# Altium integrated library GSM Shutter lock system.IntLib: 34 symbols
Pins are listed as number, name and electrical type; pins without a type are passive.

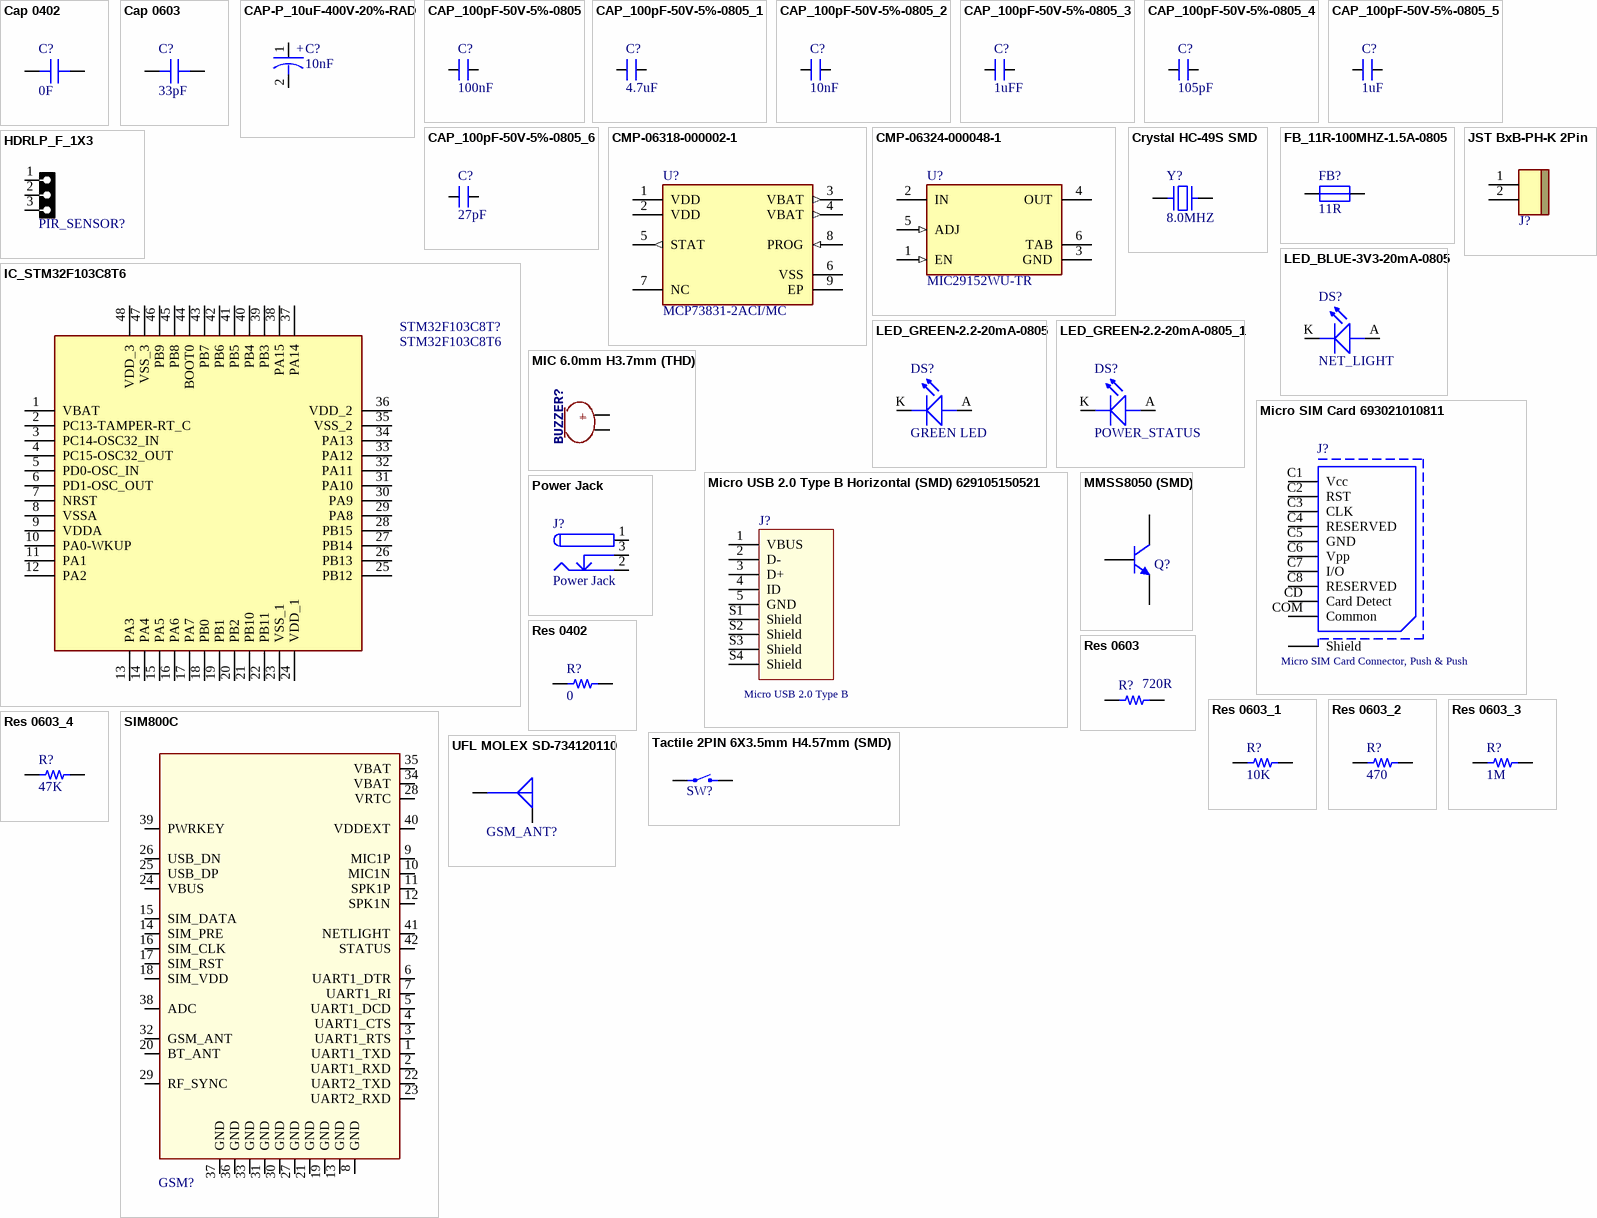
[diagram p0: symbols Cap 0402 to UFL MOLEX SD-734120110]

## Cap 0402
designator C?, comment 0F
SMT Capacitor; VALUE: 100nF
footprint CAP 0402_1005 (Chip Capacitor, 2-Leads, Body 1.02x0.51mm, IPC Medium Density)
pins: 1, 2

## Cap 0603
designator C?, comment 33pF
SMT Capacitor; VALUE: 100nF
footprint CAP 0603_1608 (Chip Capacitor, 2-Leads, Body 1.60x0.80mm, IPC Medium Density)
pins: 1, 2

## CAP-P_10uF-400V-20%-RAD
designator C?, comment 10nF
10µF 400V Aluminum Electrolytic Capacitors Radial, Can - SMD 10000 Hrs @ 105°C; Manufacturer: Nichicon; Manufacturer Part Number: ULV2G100MNL1GS; Alternate Part Number-1: NA; Case/Package: Radial-SMD; Supplier-1: SP ROAD; Supplier Part Number-1: ULV2G100MNL1GS
footprint ACAP_P339_D393_H531_RAD (Aluminium Capacitor)
pins: 1, 2
text: +

## CAP_100pF-50V-5%-0805
designator C?, comment 100nF
100pF ±5% 50V Ceramic Capacitor C0G, NP0 0805 (2012 Metric); Manufacturer: KEMET; Manufacturer Part Number: CC0805JRNPO9BN101; Alternate Part Number-1: NA; Case/Package: 0805; Supplier-1: SIRICOM; Supplier Part Number-1: 0805N101J500LT
footprint CAP_0805 (Ceramic Capacitor)
pins: 1, 2

## CAP_100pF-50V-5%-0805_1
designator C?, comment 4.7uF
100pF ±5% 50V Ceramic Capacitor C0G, NP0 0805 (2012 Metric); Manufacturer: KEMET; Manufacturer Part Number: CC0805JRNPO9BN101; Alternate Part Number-1: NA; Case/Package: 0805; Supplier-1: SIRICOM; Supplier Part Number-1: 0805N101J500LT
footprint CAP_0805 (Ceramic Capacitor)
pins: 1, 2

## CAP_100pF-50V-5%-0805_2
designator C?, comment 10nF
100pF ±5% 50V Ceramic Capacitor C0G, NP0 0805 (2012 Metric); Manufacturer: KEMET; Manufacturer Part Number: CC0805JRNPO9BN101; Alternate Part Number-1: NA; Case/Package: 0805; Supplier-1: SIRICOM; Supplier Part Number-1: 0805N101J500LT
footprint CAP_0805 (Ceramic Capacitor)
pins: 1, 2

## CAP_100pF-50V-5%-0805_3
designator C?, comment 1uFF
100pF ±5% 50V Ceramic Capacitor C0G, NP0 0805 (2012 Metric); Manufacturer: KEMET; Manufacturer Part Number: CC0805JRNPO9BN101; Alternate Part Number-1: NA; Case/Package: 0805; Supplier-1: SIRICOM; Supplier Part Number-1: 0805N101J500LT
footprint CAP_0805 (Ceramic Capacitor)
pins: 1, 2

## CAP_100pF-50V-5%-0805_4
designator C?, comment 105pF
100pF ±5% 50V Ceramic Capacitor C0G, NP0 0805 (2012 Metric); Manufacturer: KEMET; Manufacturer Part Number: CC0805JRNPO9BN101; Alternate Part Number-1: NA; Case/Package: 0805; Supplier-1: SIRICOM; Supplier Part Number-1: 0805N101J500LT
footprint CAP_0805 (Ceramic Capacitor)
pins: 1, 2

## CAP_100pF-50V-5%-0805_5
designator C?, comment 1uF
100pF ±5% 50V Ceramic Capacitor C0G, NP0 0805 (2012 Metric); Manufacturer: KEMET; Manufacturer Part Number: CC0805JRNPO9BN101; Alternate Part Number-1: NA; Case/Package: 0805; Supplier-1: SIRICOM; Supplier Part Number-1: 0805N101J500LT
footprint CAP_0805 (Ceramic Capacitor)
pins: 1, 2

## CAP_100pF-50V-5%-0805_6
designator C?, comment 27pF
100pF ±5% 50V Ceramic Capacitor C0G, NP0 0805 (2012 Metric); Manufacturer: KEMET; Manufacturer Part Number: CC0805JRNPO9BN101; Alternate Part Number-1: NA; Case/Package: 0805; Supplier-1: SIRICOM; Supplier Part Number-1: 0805N101J500LT
footprint CAP_0805 (Ceramic Capacitor)
pins: 1, 2

## CMP-06318-000002-1
designator U?, comment MCP73831-2ACI/MC
IC CONTROLLER LI-ION 4.2V 8DFN; Manufacturer: Microchip; Number Of Cells: 1; Min Supply Voltage: 3.75V; Standoff Height: 0mm; Nominal Supply Current: 0.1-510uA; Max Junction Temp: +125°C; Max Supply Voltage: 6V; Temperature Range High: +85°C; Mouser Description: Battery Management Li-Ion/Li-Poly Charg Mgnt 4.2V Vreg out; Device Class L2: Power Management ICs; ComponentLink2Description: Datasheet; Footprint Url: http://ww1.microchip.com/downloads/en/DeviceDoc/8L_DFN_2x3x0_9_MC_C04-123C.pdf; Output Voltage: 4.2V; ComponentLink2URL: http://ww1.microchip.com/downloads/en/DeviceDoc/20001984g.pdf; Package: C04-123; Ipc Land Pattern Name: DFN200X300X90-8; Number Of Outputs: 1; Manufacturer Part Number: MCP73831-2ACI/MC; Device Class L3: Battery Management; Device Class L1: Integrated Circuits (ICs); Digikey Description: IC CONTROLLER LI-ION 4.2V 8DFN; Category: IC; Temperature Range Low: -40°C; Automotive: No; Temperature: -40°C to +85°C; Octopart: https://octopart.com/mcp73831-2aci%2Fmc-microchip-16517355; RoHS: TRUE; Ambient Temperature Range Low: -40°C; Height: 1mm; Lead Free: Yes; Ambient Temperature Range High: +85°C
footprint FP-C04-123-MFG
footprint FP-C04-123-IPC_C
footprint FP-C04-123-IPC_B
footprint FP-C04-123-IPC_A
pins: 1 VDD (power), 2 VDD (power), 3 VBAT (out), 4 VBAT (out), 5 STAT (out), 6 VSS (power), 7 NC, 8 PROG (in), 9 EP (power)

## CMP-06324-000048-1
designator U?, comment MIC29152WU-TR
IC REG LIN POS ADJ 1.5A TO263-5; Manufacturer: Microchip; Output Voltage: 26V; Min Input Voltage: 2.5V; Input Bias Current: 40nA; Number of Outputs: 1; Output Type: Adjustable; Output Voltage Accuracy: 1%; Dropout Voltage: 350mV; Polarity: Positive; Quiescent Current: 20mA; Reference Voltage: 1.24V; Mount: Surface Mount; Packaging: Tape and Reel; Min Operating Temperature: -40°C; Length: 10.67mm; Case/Package: TO-263-5; Max Input Voltage: 26V; RoHS Compliant: Yes; Number of Pins: 6; Height: 4.59mm; Max Output Current: 1.5A; Number of Regulators: 1; Max Operating Temperature: 125°C; Width: 9.17mm; Series: -; Accuracy: 1%; Lead Free: Lead Free; Radiation Hardening: No; Output Current: 1.5A; Manufacturer Part Number: MIC29152WU-TR
footprint FP-C04-012-MFG
pins: 1 EN (in), 2 IN (power), 3 GND (power), 4 OUT, 5 ADJ (in), 6 TAB

## Crystal HC-49S SMD
designator Y?, comment 8.0MHZ
SMT Crystal; VALUE: 8.0MHZ
footprint HC-49S SMD (SMD crystal resonator, ABL, ABLS, HC-49, HC49 11X4.5MM)
pins: 1, 2

## FB_11R-100MHZ-1.5A-0805
designator FB?, comment 11R
11 Ohms @ 100MHz 1 Power Line Ferrite Bead 0805 (2012 Metric) 1.5A 60mOhm; Manufacturer: Murata; Manufacturer Part Number: MI0805K110R-10; Alternate Part Number-1: NA; Case/Package: 0805; Supplier-1: SIRICOM; Supplier Part Number-1: ACMS201209A110
footprint IND_0805 (Ferrite Bead)
pins: 1, 2

## HDRLP_F_1X3
designator PIR_SENSOR?, comment HDRF3  (value not drawn)
CONN, HEADER, Male, pitch: 2.54mm, 3POS; VALUE: HDRF3
footprint HDRLP_F_1X3 (Footprint not found)
pins: 1, 2, 3

## IC_STM32F103C8T6
designator STM32F103C8T?, comment STM32F103C8T6
ARM® Cortex®-M3 STM32F1 Microcontroller IC 32-Bit 72MHz 64KB (64K x 8) FLASH 48-LQFP (7x7); Manufacturer: STMicroelectronics; Alternate Part Number-1: NA; Manufacturer Part Number: STM32F103C8T6; Case/Package: LQFP48; Supplier-1: LCSC; Supplier Part Number-1: STM32F103C8T6
footprint LQFP-48_19.6_393_58X11_SMD (48LQFP)
pins: 1 VBAT, 2 PC13-TAMPER-RT_C, 3 PC14-OSC32_IN, 4 PC15-OSC32_OUT, 5 PD0-OSC_IN, 6 PD1-OSC_OUT, 7 NRST, 8 VSSA, 9 VDDA, 10 PA0-WKUP, 11 PA1, 12 PA2, 13 PA3, 14 PA4, 15 PA5, 16 PA6, 17 PA7, 18 PB0, 19 PB1, 20 PB2, 21 PB10, 22 PB11, 23 VSS_1, 24 VDD_1, 25 PB12, 26 PB13, 27 PB14, 28 PB15, 29 PA8, 30 PA9, 31 PA10, 32 PA11, 33 PA12, 34 PA13, 35 VSS_2, 36 VDD_2, 37 PA14, 38 PA15, 39 PB3, 40 PB4, 41 PB5, 42 PB6, 43 PB7, 44 BOOT0, 45 PB8, 46 PB9, 47 VSS_3, 48 VDD_3

## JST BxB-PH-K 2Pin
designator J?  (value not drawn)
Connector Header Through Hole 0.079" (2.00mm); PartNumber: B2B-PH-K-S(LF)(SN)
footprint JST B2B-PH-K
pins: 1, 2

## LED_BLUE-3V3-20mA-0805
designator DS?, comment NET_LIGHT
Blue 470nm LED Indication - Discrete 3.3V 0805 (2012 Metric); Manufacturer: Vishay Lite-On; Manufacturer Part Number: LTST-C171TBKT; Alternate Part Number-1: NA; Case/Package: 0805; Supplier-1: SP ROAD; Supplier Part Number-1: LTST-C171TBKT
footprint LED_0805
pins: A ANODE, K CATHODE

## LED_GREEN-2.2-20mA-0805
designator DS?, comment GREEN LED
Green 569nm LED Indication - Discrete 2.1V 0805 (2012 Metric); Manufacturer: Vishay Lite-On; Manufacturer Part Number: LTST-C171GKT; Alternate Part Number-1: NA; Case/Package: 0805; Supplier-1: SP ROAD; Supplier Part Number-1: LTST-C171GKT
footprint LED_0805
pins: A ANODE, K CATHODE

## LED_GREEN-2.2-20mA-0805_1
designator DS?, comment POWER_STATUS
Green 569nm LED Indication - Discrete 2.1V 0805 (2012 Metric); Manufacturer: Vishay Lite-On; Manufacturer Part Number: LTST-C171GKT; Alternate Part Number-1: NA; Case/Package: 0805; Supplier-1: SP ROAD; Supplier Part Number-1: LTST-C171GKT
footprint LED_0805
pins: A ANODE, K CATHODE

## MIC 6.0mm H3.7mm (THD)
designator BUZZER?, comment MK  (value not drawn)
30Hz ~ 15kHz Analog Microphone Electret Condenser 2V ~ 10V Omnidirectional (-42dB ±3dB) PC Pins; PartNumber: POM-3542P-R
footprint MIC-9.7MM-TALL
pins: 1 GND, 2 OUT
text: +; _

## Micro SIM Card 693021010811
designator J?, comment Micro SIM Card Connector, Push & Push
WR-CRD Micro SIM Card Connector, Push & Push, with Card Detection; PartNumber: 693021010811; Rated Current: 1A; Working Voltage: 500V AC; ComponentLink1Description: Manufacturer; ComponentLink1URL: http://www.we-online.de; ComponentLink2Description: Datasheet; ComponentLink2URL: http://katalog.we-online.de/em/datasheet/693021010811.pdf; Published Date: Feb. 2018; Publisher: Wurth Elektronik; Operating Temperature: -25 to 85 degC; Mounting Technology: SMT
footprint 693021010811
pins: C1 Vcc, C2 RST, C3 CLK, C4 RESERVED, C5 GND, C6 Vpp, C7 I/O, C8 RESERVED, CD Card Detect, COM Common, Shield

## Micro USB 2.0 Type B Horizontal (SMD) 629105150521
designator J?, comment Micro USB 2.0 Type B
Micro USB 2.0 Type B Horizontal SMT 5 Contacts High Current WR-COM; PartNumber: 629105150521; Rated Current: 3 A; Gender: Female; ComponentLink1Description: Manufacturer; ComponentLink1URL: http://www.we-online.de; ComponentLink2Description: Datasheet; ComponentLink2URL: http://katalog.we-online.de/em/datasheet/629105150521.pdf; Published Date: May 2018; Publisher: Wurth Elektronik; Orientation: Horizontal; Interface Type: Micro USB 2.0 Type B; Operating Temperature: -40 to 85 degC; Mounting Technology: SMT; Packaging: Tape and Reel
footprint 629105150521
pins: 1 VBUS, 2 D-, 3 D+, 4 ID, 5 GND, S1 Shield, S2 Shield, S3 Shield, S4 Shield

## MMSS8050 (SMD)
designator Q?, comment 8050  (value not drawn)
Bipolar (BJT) Transistor NPN 25V 1.5A 100MHz 625mW Surface Mount SOT-23; PartNumber: MMSS8050-L-TP
footprint SOT-23-3 2.9X2.4MM P0.95MM (SOT23, 3-Leads, Body 2.90x2.40mm, Pitch 0.95mm, IPC Medium Density)
pins: 1 B, 2 E, 3 C

## Power Jack
designator J?
PartNumber: DC005-5.5MM
footprint DC005 (Power Adaptor Jack)
pins: 1 (power), 2 (power), 3 (power)

## Res 0402
designator R?, comment 0
SMT Resistor; VALUE: 1K
footprint RES 0402_1005 (Chip Resistor, 2-Leads, Body 1.0x0.5mm, IPC Medium Density)
pins: 1, 2

## Res 0603
designator R?, comment 720R
SMT Resistor; VALUE: 1K
footprint RES 0603_1608 (Chip Resistor, 2-Leads, Body 1.60x0.80mm, IPC Medium Density)
pins: 1, 2

## Res 0603_1
designator R?, comment 10K
SMT Resistor; VALUE: 1K
footprint RES 0603_1608 (Chip Resistor, 2-Leads, Body 1.60x0.80mm, IPC Medium Density)
pins: 1, 2

## Res 0603_2
designator R?, comment 470
SMT Resistor; VALUE: 1K
footprint RES 0603_1608 (Chip Resistor, 2-Leads, Body 1.60x0.80mm, IPC Medium Density)
pins: 1, 2

## Res 0603_3
designator R?, comment 1M
SMT Resistor; VALUE: 1K
footprint RES 0603_1608 (Chip Resistor, 2-Leads, Body 1.60x0.80mm, IPC Medium Density)
pins: 1, 2

## Res 0603_4
designator R?, comment 47K
SMT Resistor; VALUE: 1K
footprint RES 0603_1608 (Chip Resistor, 2-Leads, Body 1.60x0.80mm, IPC Medium Density)
pins: 1, 2

## SIM800C
designator GSM?  (value not drawn)
footprint Sim800C
pins: 1 UART1_TXD, 2 UART1_RXD, 3 UART1_RTS, 4 UART1_CTS, 5 UART1_DCD, 6 UART1_DTR, 7 UART1_RI, 8 GND, 9 MIC1P, 10 MIC1N, 11 SPK1P, 12 SPK1N, 13 GND, 14 SIM_PRE, 15 SIM_DATA, 16 SIM_CLK, 17 SIM_RST, 18 SIM_VDD, 19 GND, 20 BT_ANT, 21 GND, 22 UART2_TXD, 23 UART2_RXD, 24 VBUS, 25 USB_DP, 26 USB_DN, 27 GND, 28 VRTC, 29 RF_SYNC, 30 GND, 31 GND, 32 GSM_ANT, 33 GND, 34 VBAT, 35 VBAT, 36 GND, 37 GND, 38 ADC, 39 PWRKEY, 40 VDDEXT, 41 NETLIGHT, 42 STATUS

## Tactile 2PIN 6X3.5mm H4.57mm (SMD)
designator SW?  (value not drawn)
Tactile Switch SPST-NO Top Actuated Surface Mount; PartNumber: FSMSMTR-ND
footprint SWPBS_SPST_6X3X5 (SWITCH, PUSHBUTTON, SMD, SPST, 6X3.5mm, SKQMBBE010, 50000 Cycles, 1.57N Force)
pins: 1, 2

## UFL MOLEX SD-734120110
designator GSM_ANT?, comment UFL  (value not drawn)
PartNumber: MOLEX SD-734120110
footprint MOLEX SD-734120110
pins: G, S